# Altium schematic symbol library 51.SCHLIB: 31 symbols
Pins are listed as number, name and electrical type; pins without a type are passive.

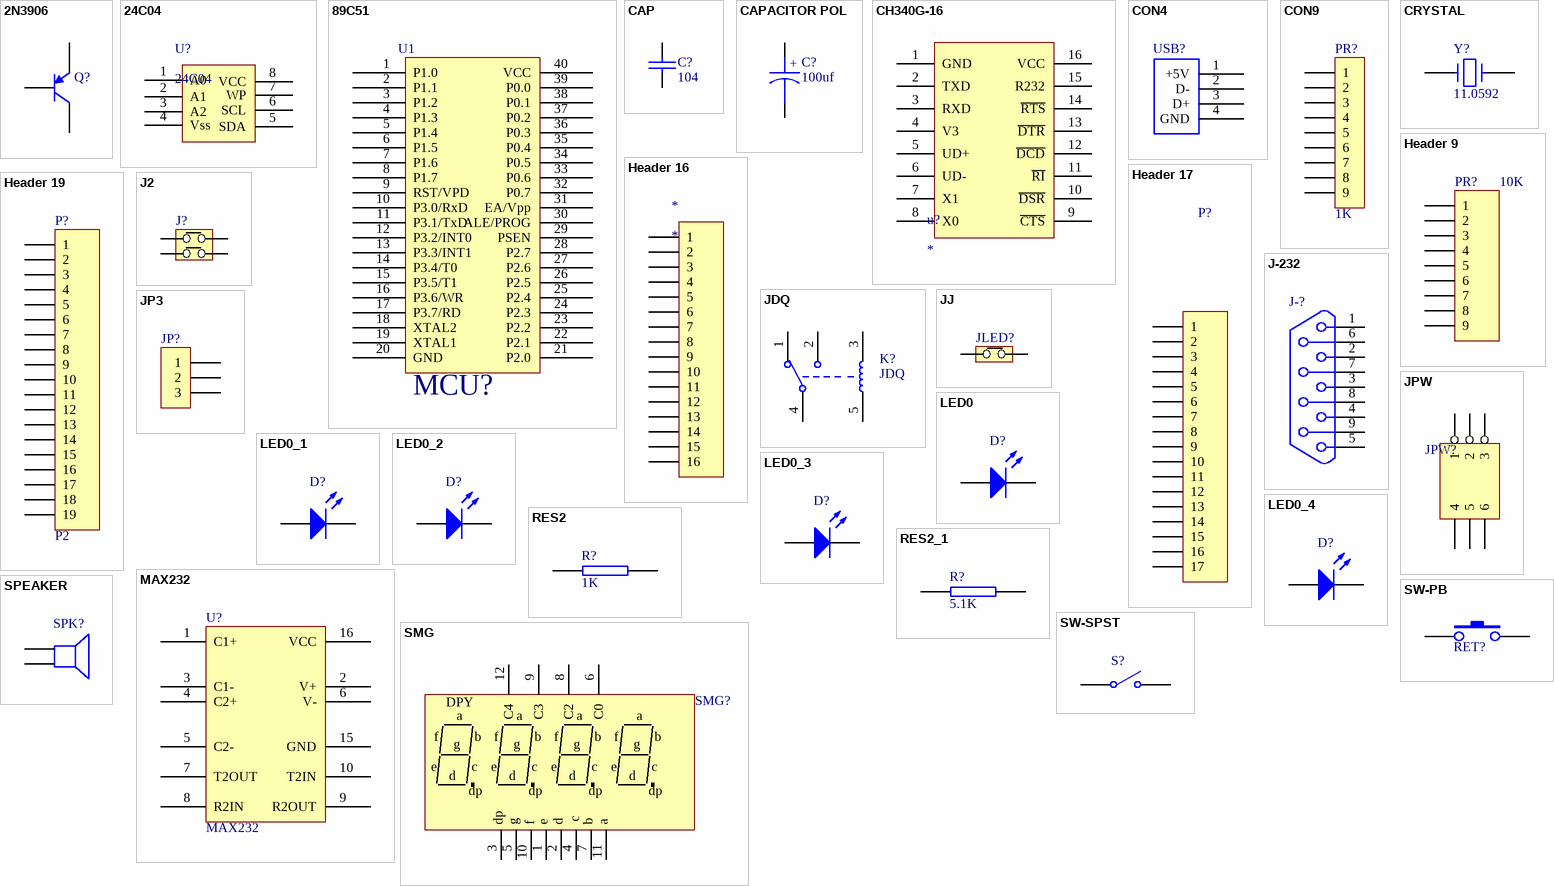
[diagram p0: symbols 2N3906 to SW-SPST]

## 2N3906
designator Q?  (value not drawn)
PNP General Purpose Amplifier; Published: 8-Jun-2000; LatestRevisionDate: 15-Jan-2003; LatestRevisionNote: PCB Footprint 'BCY-W3/D4.7' replaced; DatasheetDocument: 1997; PackageDocument: Sep-1998; PackageReference: TO-92A; Publisher: Altium Limited; Code_JEDEC: TO-92A; ComponentLink1Description: Manufacturer Link; ComponentLink1URL: http://www.fairchildsemi.com/; ComponentLink2Description: Datasheet; ComponentLink2URL: http://www.fairchildsemi.com/ds/2N%2F2N3906.pdf
footprint TO-92A (TO, Flat Index; 3 In-Line, Axial Leads; Body Dia. 4.5mm; Leads 0.51 x 0.48 mm (max))
simulation model 2N3906 (PNP)
signal-integrity model 2N3906
pins: 1 E, 2 B, 3 C

## 24C04
designator U?
pins: 1 A0, 2 A1, 3 A2, 4 Vss, 5 SDA, 6 SCL, 7 WP, 8 VCC

## 89C51
designator MCU?, comment U1
footprint S52
pins: 1 P1.0, 2 P1.1, 3 P1.2, 4 P1.3, 5 P1.4, 6 P1.5, 7 P1.6, 8 P1.7, 9 RST/VPD, 10 P3.0/RxD, 11 P3.1/TxD, 12 P3.2/INT0, 13 P3.3/INT1, 14 P3.4/T0, 15 P3.5/T1, 16 P3.6/WR, 17 P3.7/RD, 18 XTAL2, 19 XTAL1, 20 GND, 21 P2.0, 22 P2.1, 23 P2.2, 24 P2.3, 25 P2.4, 26 P2.5, 27 P2.6, 28 P2.7, 29 PSEN, 30 ALE/PROG, 31 EA/Vpp, 32 P0.7, 33 P0.6, 34 P0.5, 35 P0.4, 36 P0.3, 37 P0.2, 38 P0.1, 39 P0.0, 40 VCC

## CAP
designator C?, comment 104
Capacitor
footprint RAD-0.1
pins: 1, 2

## CAPACITOR POL
designator C?, comment 100uf
Capacitor
footprint C4
pins: 1, 2
text: +

## CH340G-16
designator u?
pins: 1 GND, 2 TXD, 3 RXD, 4 V3, 5 UD+, 6 UD-, 7 X1, 8 X0, 9 ~{CTS}, 10 ~{DSR}, 11 ~{RI}, 12 ~{DCD}, 13 ~{DTR}, 14 ~{RTS}, 15 R232, 16 VCC

## CON4
designator USB?  (value not drawn)
Connector
footprint USB
pins: 1 +5V, 2 D-, 3 D+, 4 GND

## CON9
designator PR?, comment 1K
Connector
footprint SIP-9
pins: 1, 2, 3, 4, 5, 6, 7, 8, 9

## CRYSTAL
designator Y?, comment 11.0592
Crystal
footprint XTAL1
pins: 1, 2

## Header 9
designator PR?, comment 10K
Header, 9-Pin; LatestRevisionDate: 17-Jul-2002; LatestRevisionNote: Re-released for DXP Platform.; Publisher: Altium Limited
signal-integrity model Connector
footprint SIP-9
pins: 1, 2, 3, 4, 5, 6, 7, 8, 9

## Header 16
designator *
pins: 1, 2, 3, 4, 5, 6, 7, 8, 9, 10, 11, 12, 13, 14, 15, 16

## Header 17
designator P?  (value not drawn)
Header, 17-Pin; LatestRevisionDate: 17-Jul-2002; LatestRevisionNote: Re-released for DXP Platform.; Publisher: Altium Limited
signal-integrity model Connector
footprint j17
pins: 1, 2, 3, 4, 5, 6, 7, 8, 9, 10, 11, 12, 13, 14, 15, 16, 17

## Header 19
designator P?, comment P2
Header, 19-Pin; LatestRevisionDate: 17-Jul-2002; LatestRevisionNote: Re-released for DXP Platform.; Publisher: Altium Limited
signal-integrity model Connector
footprint j19
pins: 1, 2, 3, 4, 5, 6, 7, 8, 9, 10, 11, 12, 13, 14, 15, 16, 17, 18, 19

## J2
designator J?  (value not drawn)
footprint j2
pins: 3, 3, 5, 5

## J-232
designator J-?  (value not drawn)
footprint DB9
pins: 1, 2, 3, 4, 5, 6, 7, 8, 9

## JDQ
designator K?
footprint JDQ
pins: 1, 2, 3, 4, 5

## JJ
designator JLED?  (value not drawn)
footprint j2
pins: 1, 2

## JP3
designator JP?  (value not drawn)
footprint JP3
pins: 1, 2, 3

## JPW
designator JPW?  (value not drawn)
footprint SIP
footprint SIP
pins: 1, 2, 3, 4, 5, 6

## LED0
designator D?  (value not drawn)
Typical INFRARED GaAs LED; Published: 8-Jun-2000; LatestRevisionDate: 08-Jul-2005; LatestRevisionNote: Mech Layer 1 removed.; PackageReference: LED-0; Publisher: Altium Limited
simulation model LED0 (Diode)
footprint LED2
pins: 1 A, 2 K

## LED0_1
designator D?, comment LED0  (value not drawn)
Typical INFRARED GaAs LED; Published: 8-Jun-2000; LatestRevisionDate: 08-Jul-2005; LatestRevisionNote: Mech Layer 1 removed.; PackageReference: LED-0; Publisher: Altium Limited
simulation model LED0 (Diode)
footprint LED-D
footprint LED2
pins: 1 A, 2 K

## LED0_2
designator D?, comment LED0  (value not drawn)
Typical INFRARED GaAs LED; Published: 8-Jun-2000; LatestRevisionDate: 08-Jul-2005; LatestRevisionNote: Mech Layer 1 removed.; PackageReference: LED-0; Publisher: Altium Limited
footprint 4148
simulation model LED0 (Diode)
pins: 1 A, 2 K

## LED0_3
designator D?, comment LED0  (value not drawn)
Typical INFRARED GaAs LED; Published: 8-Jun-2000; LatestRevisionDate: 08-Jul-2005; LatestRevisionNote: Mech Layer 1 removed.; PackageReference: LED-0; Publisher: Altium Limited
simulation model LED0 (Diode)
footprint LED8
pins: 1 A, 2 K

## LED0_4
designator D?, comment LED0  (value not drawn)
Typical INFRARED GaAs LED; Published: 8-Jun-2000; LatestRevisionDate: 08-Jul-2005; LatestRevisionNote: Mech Layer 1 removed.; PackageReference: LED-0; Publisher: Altium Limited
simulation model LED0 (Diode)
footprint LED-D
footprint LED8
pins: 1 A, 2 K

## MAX232
designator U?
footprint DIP-16
pins: 1 C1+, 2 V+, 3 C1-, 4 C2+, 5 C2-, 6 V-, 7 T2OUT, 8 R2IN, 9 R2OUT, 10 T2IN, 15 GND, 16 VCC

## RES2
designator R?, comment 1K
footprint axial0.4
pins: 1, 2

## RES2_1
designator R?, comment 5.1K
footprint axial0.4
pins: 1, 2

## SMG
designator SMG?  (value not drawn)
footprint smg
pins: 1 e, 2 d, 3 dp, 4 c, 5 g, 6 C0, 7 b, 8 C2, 9 C3, 10 f, 11 a, 12 C4
text: DPY

## SPEAKER
designator SPK?, comment Speaker  (value not drawn)
footprint SPEAKER
pins: 1 A, 2 K

## SW-PB
designator RET?, comment RET  (value not drawn)
footprint KG4
pins: 1, 2

## SW-SPST
designator S?  (value not drawn)
Single-Pole, Single-Throw Switch; Published: 24-Mar-1999; LatestRevisionDate: 17-Jul-2002; LatestRevisionNote: Re-released for DXP Platform.; PackageReference: SPST-2; Publisher: Altium Limited
footprint SW6
pins: 1 COMMON, 2 NO